# EAGLE library part DF3-15S (library con-hirose)
Single row female connector 2mm 15 way
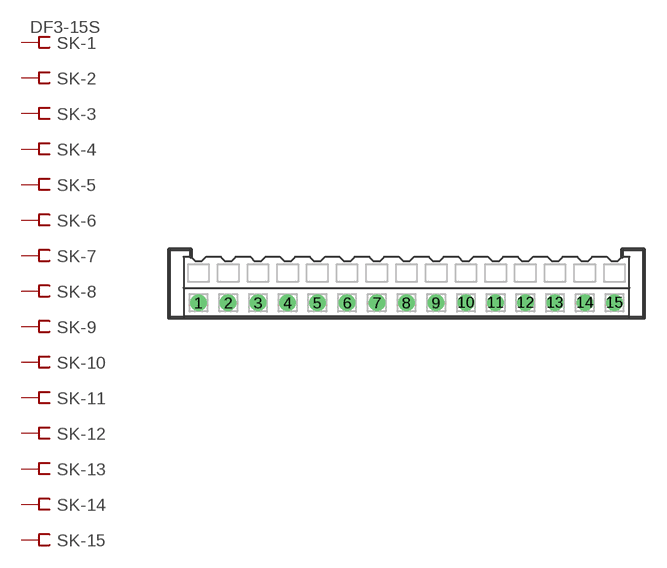
[diagram p18: symbol with the pads of DF3S-15; footprint DF3S-15]

Designator prefix SK; gates -1=FV -2=F -3=F -4=F -5=F -6=F -7=F -8=F -9=F -10=F -11=F -12=F -13=F -14=F -15=F

## DF3-15S  [DF3S-15]
1  -1:S  pas
2  -2:S  pas
3  -3:S  pas
4  -4:S  pas
5  -5:S  pas
6  -6:S  pas
7  -7:S  pas
8  -8:S  pas
9  -9:S  pas
10  -10:S  pas
11  -11:S  pas
12  -12:S  pas
13  -13:S  pas
14  -14:S  pas
15  -15:S  pas

## Footprint DF3S-15 (pad centres in mm)
Single row connector 2mm 15 way
drill 0.6 round: 1 -14,-1; 2 -12,-1; 3 -10,-1; 4 -8,-1; 5 -6,-1; 6 -4,-1; 7 -2,-1; 8 0,-1; 9 2,-1; 10 4,-1; 11 6,-1; 12 8,-1; 13 10,-1; 14 12,-1; 15 14,-1